# Altium schematic symbol library My Arduino Nano.SCHLIB: 18 symbols
Pins are listed as number, name and electrical type; pins without a type are passive.

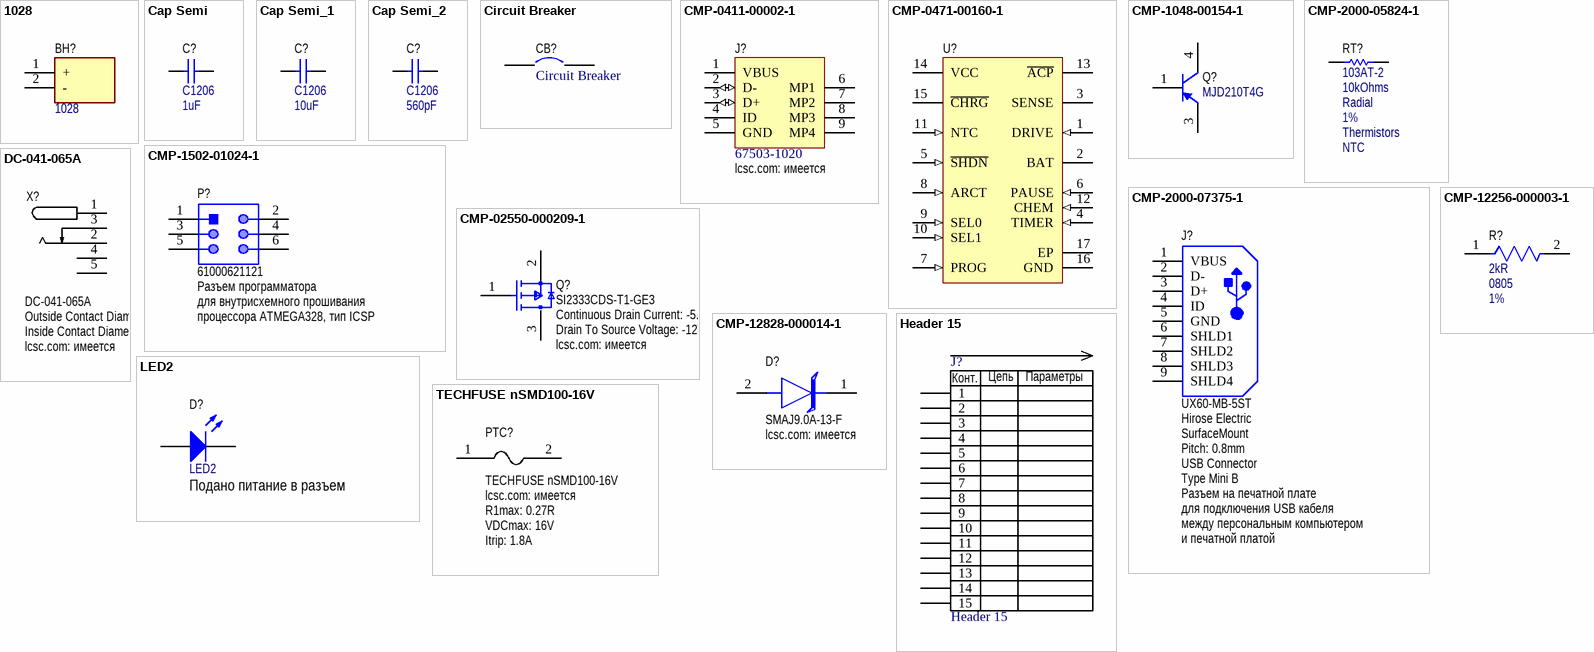
[diagram p0: symbols 1028 to TECHFUSE nSMD100-16V]

## 1028
designator BH?
Undefined or Miscellaneous; Manufacturer_Name: Keystone Electronics; Datasheet Link: http://www.keyelco.com/product-pdf.cfm?p=929; Height: 15.49mm; Manufacturer_Part_Number: 1028; Mouser Part Number: 534-1028; Mouser Price/Stock: https://www.mouser.co.uk/ProductDetail/Keystone-Electronics/1028?qs=TMDrOSIpnUdoTBwO9TubhA%3D%3D; Arrow Part Number: 1028; Arrow Price/Stock: https://www.arrow.com/en/products/1028/keystone-electronics
footprint 1028
pins: 1 +, 2 -

## Cap Semi
designator C?  value 1uF  PackageReference: C1206  (hidden comment: Cap Semi)
Capacitor (Semiconductor SIM Model); Published: 8-Jun-2000; LatestRevisionDate: 29-May-2009; LatestRevisionNote: IPC-7351 Footprint Added.; Publisher: Altium Limited; PackageDescription: Chip Capacitor
footprint C1206 (Chip Capacitor, Body 3.2x1.6mm, IPC High Density)
footprint 0402 (Chip Capacitor, Body 1.0x0.5mm, IPC High Density)
footprint C2512 (Chip Capacitor, Body 2.54x1.27mm, IPC High Density)
footprint 1608[0603] (Chip Capacitor, Body 1.6x0.8mm, IPC High Density)
footprint C1210 (Chip Capacitor, Body 3.2x2.5mm, IPC High Density)
simulation model CAP (Semiconductor Capacitor)
signal-integrity model Cap Semi
pins: 1, 2

## Cap Semi_1
designator C?, comment value 10uF  PackageReference: C1206  (hidden comment: Cap Semi)
Capacitor (Semiconductor SIM Model); Published: 8-Jun-2000; LatestRevisionDate: 29-May-2009; LatestRevisionNote: IPC-7351 Footprint Added.; Publisher: Altium Limited; PackageDescription: Chip Capacitor
footprint C1206 (Chip Capacitor, Body 3.2x1.6mm, IPC High Density)
footprint 0402 (Chip Capacitor, Body 1.0x0.5mm, IPC High Density)
footprint C2512 (Chip Capacitor, Body 2.54x1.27mm, IPC High Density)
footprint 1608[0603] (Chip Capacitor, Body 1.6x0.8mm, IPC High Density)
footprint C1210 (Chip Capacitor, Body 3.2x2.5mm, IPC High Density)
simulation model CAP (Semiconductor Capacitor)
signal-integrity model Cap Semi
pins: 1, 2

## Cap Semi_2
designator C?, comment value 560pF  PackageReference: C1206  (hidden comment: Cap Semi)
Capacitor (Semiconductor SIM Model); Published: 8-Jun-2000; LatestRevisionDate: 29-May-2009; LatestRevisionNote: IPC-7351 Footprint Added.; Publisher: Altium Limited; PackageDescription: Chip Capacitor
footprint C1206 (Chip Capacitor, Body 3.2x1.6mm, IPC High Density)
footprint 0402 (Chip Capacitor, Body 1.0x0.5mm, IPC High Density)
footprint C2512 (Chip Capacitor, Body 2.54x1.27mm, IPC High Density)
footprint 1608[0603] (Chip Capacitor, Body 1.6x0.8mm, IPC High Density)
footprint C1210 (Chip Capacitor, Body 3.2x2.5mm, IPC High Density)
simulation model CAP (Semiconductor Capacitor)
signal-integrity model Cap Semi
pins: 1, 2

## Circuit Breaker
designator CB?
Published: 24-Mar-1999; LatestRevisionDate: 17-Jul-2002; LatestRevisionNote: Re-released for DXP Platform.; PackageReference: SPST-2; Publisher: Altium Limited; PackageDescription: Switch; 2 Leads
footprint SPST-2 (Switch; 2 Leads)
pins: 1, 2

## CMP-0411-00002-1
designator J?, comment 67503-1020  lcsc.com: имеется
USB, MINI, SMD, RA KME04-USBMU03A01; Manufacturer: Molex; ComponentLink1URL: http://www.molex.com/; PartNumber: 67503-1020; Mounting Technology: Surface Mount; ComponentLink1Description: Manufacturer URL; Terminal Pitch: 0.8 mm; DatasheetVersion: Rev F, 06/2009; ComponentLink2Description: Datasheet; PackageDescription: Mini USB Connector, SMT, Righer Angle; ComponentLink2URL: http://www.molex.com/pdm_docs/sd/675031020_sd.pdf; PackageReference: 67503-1020; lcsc.com/product: https://lcsc.com/product-detail/USB-Connectors_MOLEX-675031020_C136451.html
footprint MOLX-67503-1020_V (Mini USB Connector, SMT, Righer Angle)
pins: 1 VBUS (power), 2 D- (io), 3 D+ (io), 4 ID, 5 GND (power), 6 MP1, 7 MP2, 8 MP3, 9 MP4

## CMP-0471-00160-1
designator U?, comment LTC4060EDHC#PBF  (value not drawn)
Standalone Linear NiMH / NiCd Fast Battery Charger, 4.5 to 10 V Vin, 16-pin SON (DHC-16), -40 to 85 degC, Pb-Free; Manufacturer: Linear Technology; Float Voltage: Adj; Vin Min(V): 4.5; Max Charge Current(A): 2; Battery Chemistry: NiCd, NiMH, Lead Acid; Number of Cells: 1 to 4; Vin Max(V): 10; PartNumber: LTC4060EDHC#PBF; PackageVersion: Jun-10; ComponentLink1URL: http://www.linear.com/; ComponentLink3Description: Package Specification; RoHS: TRUE; PackageReference: DHC-16; ComponentLink2Description: Datasheet; Mounting Technology: Surface Mount; PackageDescription: 16-Pin Plastic DFN, Body 5 x 3 mm, Pitch 0.5 mm; ComponentLink1Description: Manufacturer URL; Type of Charger: Linear; ComponentLink2URL: http://cds.linear.com/docs/en/datasheet/4060f.pdf; ComponentLink3URL: http://cds.linear.com/docs/en/packaging/DFN_16_05-08-1706.pdf; Code_JEDEC: MO-229
footprint LT-DHC-16_V (SON, 16-Leads, Body 5x3mm, Pitch 0.5mm, Thermal Pad 4.4X1.65mm)
pins: 1 DRIVE (in) "Base Drive Output for the External PNP Pass Transistor. Provides a controlled sink current that drives the base of the PNP. This pin has current limit protection for the LTC4060.", 2 BAT "Battery Voltage Sense Input Pin. The LTC4060 uses the voltage on this pin to monitor battery voltage and control the battery current during charging. An internal resistor divider is connected to this pin which is (See Datasheet)", 3 SENSE "Charge Current Sense Node Input. Current from VCC passes through the internal current sense resistor and reappears at the SENSE pin to supply current to the external PNP emitter. The PNP collector provides charge current (See Datasheet)", 4 TIMER (in) "Charge Timer Input. A capacitor connected between TIMER and GND along with a resistor connected from PROG to GND programs the charge cycle timing limits.", 5 ~{SHDN} (in) "Active Low Shutdown Control Logic Input. When pulled low, charging stops and the LTC4060 supply current is minimized.", 6 PAUSE (in) "Pause Enable Logic Input. The charger can be paused, turning off the charge current, disabling termination and stopping the timer when this pin is high. A low level will resume the charging process.", 7 PROG (in) "Charge Current Programming Input. Provides a virtual reference of 1.5V for an external resistor (RPROG) tied between this pin and GND that programs the battery charge current. The fast charge current will be 930 times the (See Datasheet)", 8 ARCT (in) "Autorecharge Threshold Programming Input. When the average cell voltage falls below this threshold, charging is reinitiated. The voltage on this pin is conveniently derived by using two series PROG pin resistors and (See Datasheet)", 9 SEL0 (in) "Number of Cells Selection Logic Input. For single cell, connect both pins to GND. For two cells, connect SEL1 to GND and SEL0 to VCC. For three cells, SEL1 connects to VCC and SEL0 to GND. For four cells, connect both pins (See Datasheet)", 10 SEL1 (in) "Number of Cells Selection Logic Input. For single cell, connect both pins to GND. For two cells, connect SEL1 to GND and SEL0 to VCC. For three cells, SEL1 connects to VCC and SEL0 to GND. For four cells, connect both pins (See Datasheet)", 11 NTC (in) "Battery Temperature Input. An external NTC thermistor network may be connected to NTC to provide temperature-based charge qualification. Connecting NTC to GND inhibits this function.", 12 CHEM (in) "Battery Chemistry Selection Logic Input. When connected to a high level NiCd fast charge -deltaV termination parameters are used. A low level selects NiMH parameters.", 13 ~{ACP} (hiz) "Open-Drain Power Supply Status Output. When VCC is greater than the undervoltage lockout threshold, the A\C\P\ pin will pull to ground. Otherwise the pin is high impedance. This output is capable of driving an LED.", 14 VCC (power) "Power Input. This pin can be bypassed to ground with a capacitance of 1uF.", 15 ~{CHRG} (hiz) "Open-Drain Charge Indicator Status Output. The LTC4060 indicates it is providing charge to the battery by driving this pin to GND. If charging is paused or suspended due to abnormal battery temperature, the pin remains (See Datasheet)", 16 GND (power) "Ground. This pin provides a ground for the internal voltage reference and other circuits. All voltage thresholds are referenced to this pin.", 17 EP (power) "Thermal Connection. Internally connected to GND. Solder to PCB ground for optimum thermal performance."

## CMP-1048-00154-1
designator Q?, comment MJD210T4G
Complementary Plastic Power Transistor, PNP Silicon, 3-Pin DPAK, Pb-Free, Tape and Reel; Manufacturer: On Semiconductor; fT Min (MHz): 65; IC Continuous (A): 5; ComponentLink1URL: http://www.onsemi.com/; Mounting Technology: Surface Mount; ComponentLink3Description: Package Specification; PackageReference: DPAK-3-369C-01; DatasheetVersion: Rev. 13; ComponentLink2URL: http://www.onsemi.cn/pub_link/Collateral/MJD200-D.PDF; ComponentLink3URL: http://www.onsemi.cn/pub_link/Collateral/369C.PDF; Packing: Tape and Reel; PackageDescription: 3-Pin Flange Mount, Body 6.54 x 6.095 mm, Pitch 2.29 mm; PartNumber: MJD210T4G; Polarity: PNP; RoHS: TRUE; PackageVersion: Rev. E, 02/2014; ComponentLink2Description: Datasheet; ComponentLink1Description: Manufacturer URL
footprint ONSC-DPAK-3-369C-01_V (DPAK, 3-Leads, Body 6.54x6.095mm, Pitch 2.29mm)
pins: 1 B, 3 E, 4 C

## CMP-1502-01024-1
designator P?, comment 61000621121  Parameter 1: Разъем программатора  Parameter 2: для внутрисхемного прошивания  Parameter 3: процессора ATMEGA328, тип ICSP
SMT Vertical Pin Header WR-PHD, Pitch 2.54 mm, Dual Row, 6 pins; Manufacturer: Wurth Elektronik; Withstanding Voltage: 500VAC; Contact Resistance: 20mOhm; Working Voltage: 250VAC; Gender: Male; Rated Current: 3A; Pin Number: 6; Pitch: 2.54mm; Part Number: 61000621121; Operating Temperature: -40to125degC; Mounting Technology: SMT; Packaging: Tube; Datasheet URL: https://katalog.we-online.de/em/datasheet/6100xx21121.pdf; Package Reference: 61000621121; Publisher: WurthElektronik; Row Number: Dual; Orientation: Vertical; Manufacturer URL: http://www.we-online.de
footprint 61000621121 (Pin Header, pitch 2.54 mm, SMD, Vertical, dual row, 6p)
pins: 1, 2, 3, 4, 5, 6

## CMP-2000-05824-1
designator RT?, comment 103AT-2  Resistance: 10kOhms  Termination Style: Radial  Tolerance: 1%  Product Category: Thermistors  Type: NTC
Precision NTC Thermistor, 10 kOhm, +/- 1%, 10 mW, -50 to 110 degC, 2-Pin THD, RoHS, Bulk; Brand: Semitec; Packaging: Bulk; Mounting Technology: ThroughHole; Operating Temperature Range: -50Cto+110C; Lead Spacing: 2.54mm; RoHS: True; Manufacturer URL: http://www.semitec.co.jp/english/; Datasheet Version: Rev. A, 02/2007; Length: 17mm; Manufacturer: Semitec; Datasheet URL: https://www.rapidonline.com/pdf/61-0500e.pdf; Series: AT; Package Description: 2-Pin Through Hole Device, Body Width 3.8 mm (Max), Pitch 2.54 mm; Width: 3.7mm; Package Reference: 103AT-2; Height: 2.4mm
footprint SEMI-103AT-2_V (THD, 2-Leads, Body Width 3.8mm (Max), Pitch 2.54mm)
pins: 1, 2

## CMP-2000-07375-1
designator J?, comment UX60-MB-5ST  Manufacturer: Hirose Electric  Termination: SurfaceMount  Pitch: 0.8mm  Parameter 1: USB Connector  Parameter 2: Type Mini B  Parameter 3: Разъем на печатной плате  Parameter 4: для подключения USB кабеля  Parameter 5: между персональным компьютером  Parameter 6: и печатной платой
USB Connector Mini B Type, 1 A, 5 V AC, -30 to 75 degC, 5-Pin SMD, RoHS, Tape and Reel; No of Positions: 5; Style/Orientation: RightAngleSocket/Receptacle; Datasheet Version: 04/2008; Datasheet URL: http://datasheet.octopart.com/UX60-MB-5ST-Hirose-datasheet-8329595.pdf; Type: WiretoBoard; Package Reference: UX60-MB-5ST; Manufacturer URL: https://www.hirose.com; Mounting Technology: SurfaceMount; Package Description: 5-Pin Surface Mount Device, Body 7.7 x 9 mm, Pitch 0.8 mm
footprint HIRO-UX60-MB-5ST_V (SMD, 5-Leads, Body 7.7x9mm, Pitch 0.8mm)
pins: 1 VBUS (power), 2 D-, 3 D+, 4 ID, 5 GND (power), 6 SHLD1, 7 SHLD2, 8 SHLD3, 9 SHLD4

## CMP-02550-000209-1
designator Q?, comment SI2333CDS-T1-GE3  Continuous Drain Current: -5.1A  Drain To Source Voltage: -12V  lcsc.com: имеется
MOSFET P-CH 12V 7.1A SOT-23; Manufacturer: Vishay; Gate To Source Voltage: 8V; Pulse Drain Current: -20A; Transconductance: 18.5S; Turn On Delay Time: 13ns; Turn Off Delay Time: 45ns; Max Forward Diode Voltage: -1.2V; Gate Charge At Vgs: 15nC @ -4.5V; Reverse Recovery Time: 32ns; Depletion Mode: False; Typ Forward Diode Voltage: -0.7V; Drain To Source Resistance: 0.0285Ω; Rthja Max: 75°C/W; Max Junction Temp: +150°C; Reverse Recovery Charge: 20nC; Number Of Channels: 1; Threshold Vgs Max: -1V; Standoff Height: 0.01mm; Input Capacitace At Vds: 1225pF @ -6V; Power Dissipation: 1.25W; Threshold Vgs Min: -0.4V; Temperature: -55°C to +150°C; Package: S-03946; Lead Free: Yes; Drain To Source Breakdown Voltage: -12V; Mouser Description: MOSFET 12V 5.1A 2.5W 35 mohms @ 4.5V; ComponentLink2Description: Datasheet; Automotive: No; Ipc Land Pattern Name: SOT95P237X100-3; ComponentLink2URL: http://www.vishay.com/docs/68717/si2333cd.pdf; Octopart: https://octopart.com/si2333cds-t1-ge3-vishay-43171447; Temperature Range High: +150°C; Digikey Description: MOSFET P-CH 12V 7.1A SOT-23; Category: Trans; Device Class L2: Transistors; Manufacturer Part Number: SI2333CDS-T1-GE3; RoHS: TRUE; Device Class L3: MOSFETs; Height: 1.12mm; Number Of P Channels: 1; Temperature Range Low: -55°C; Device Class L1: Discrete Semiconductors; lcsc.com link: https://lcsc.com/product-detail/MOSFETs_Vishay-Intertech-SI2333CDS-T1-GE3_C48179.html
footprint FP-S-03946-MFG
footprint FP-S-03946-IPC_C
footprint FP-S-03946-IPC_B
footprint FP-S-03946-IPC_A
pins: 1 G, 2 S, 3 D

## CMP-12256-000003-1
designator R?, comment Resistance: 2kR  Case/Package: 0805  Tolerance: 1%  (hidden comment: MC01W0805110K)
Resistor, 10K, 0.1W, 1%, 0805, Reel; Manufacturer: Multicomp; Voltage Rating: 150V; Temperature Coefficient: 100ppm/°C; Power Rating: 100mW; REACH SVHC: No SVHC; Composition: Thick Film; Max Operating Temperature: 155°C; Number of Pins: 2; Case Code (Metric): 2012; Voltage Rating (DC): 150V; Min Operating Temperature: -55°C; Width: 1.25mm; Case Code (Imperial): 0805; Packaging: Cut Tape; Supplier 1: Newark; Supplier Part Number 1: 07W5303; Manufacturer Part Number: MC01W0805110K; RoHS: No; Category: Chip SMD Resistors; Stock 1: 940000; Pricing 1: 1=0,00900, 5000=0,00900, 10000=0,00800, 25000=0,00600 (USD); Series: MC; Resistor Type: Thick Film; Resistance Tolerance: 1%; RoHS Compliant: No; ComponentLink1URL: https://datasheet.ciiva.com/7881/1729047-7881334.pdf?src-supplier=Element14; ComponentLink1Description: https://datasheet.ciiva.com/7881/1729047-7881334.pdf?src-supplier=Element14; ComponentLink2URL: https://datasheet.ciiva.com/7881/1729047-7881333.pdf?src-supplier=Element14; ComponentLink2Description: https://datasheet.ciiva.com/7881/1729047-7881333.pdf?src-supplier=Element14
footprint FP-MC01W0805-IPC_C
footprint FP-MC01W0805-IPC_B
footprint FP-MC01W0805-IPC_A
pins: 1, 2

## CMP-12828-000014-1
designator D?, comment SMAJ9.0A-13-F  lcsc.com: имеется
TVS DIODE 9V 15.4V SMA; Manufacturer: Diodes Inc; Number Of Channels: 1; Standoff Height: 0.05mm; Max Junction Temp: +150°C; Direction: Unidirectional; Breakdown Voltage: 10V; Peak Pulse Current: 26A; Peak Pulse Power: 400W; Category: Diode; Footprint Url: https://www.diodes.com/assets/Package-Files/SMA.pdf; Lead Free: Yes; Mouser Description: TVS Diodes - Transient Voltage Suppressors 400W 9.0V; Automotive: No; Temperature Range Low: -55°C; Temperature Range High: +150°C; Manufacturer Part Number: SMAJ9.0A-13-F; RoHS: TRUE; Octopart: https://octopart.com/smaj9.0a-13-f-diodes+inc.-350369; Device Class L3: unset; Device Class L2: TVS Diodes; Clamping Voltage: 15.4V; Temperature: -55°C to +150°C; ComponentLink2Description: Datasheet; Package: SMA; Reverse Standoff Voltage: 9V; Digikey Description: TVS DIODE 9V 15.4V SMA; Height: 2.4mm; ComponentLink2URL: https://www.diodes.com/assets/Datasheets/ds19005.pdf; Device Class L1: Circuit Protection; lcsc.com link: https://lcsc.com/product-detail/TVS_Diodes-Incorporated-SMAJ9-0CA-13-F_C135023.html
footprint FP-SMA-MFG
pins: 1 C, 2 A

## DC-041-065A
designator X?  Inside Contact Diameter: 0.65mm  Outside Contact Diameter: 2.6mm  lcsc.com: имеется
Surface Mount DC Power Receptacle 0.65mm -20℃~+70℃ 2.6mm 500mA 30V SMD AC/DC Power Connectors ROHS; BOM_Manufacturer: Rectangular Connectors - Contacts; Contributor: LCSC; BOM_Supplier: LCSC; BOM_Supplier Part: C192728; BOM_Manufacturer Part: DC-041-065A; BOM_JLCPCB Part Class: Extended Part; spicePre: D; spiceSymbolName: DC-041; Parameter 1: https://lcsc.com/product-detail/AC-DC-Power-Connectors_Korean-Hroparts-Elec-DC-041-065A_C192728.html
footprint DC-041-065A
pins: 1, 2, 3, 4, 5

## Header 15
designator J?
Header, 15-Pin; LatestRevisionDate: 17-Jul-2002; LatestRevisionNote: Re-released for DXP Platform.; Publisher: Altium Limited
footprint HDR1X15 (Connector; Header; 15 Position)
signal-integrity model Connector
pins: 1, 2, 3, 4, 5, 6, 7, 8, 9, 10, 11, 12, 13, 14, 15
text: Конт.; Цепь; Параметры

## LED2
designator D?  Parameter 1: Подано питание в разъем
Typical RED, GREEN, YELLOW, AMBER GaAs LED; Published: 8-Jun-2000; LatestRevisionDate: 17-Jul-2002; LatestRevisionNote: Re-released for DXP Platform.; PackageVersion: Feb-2002; PackageReference: 3.2X1.6X1.1; Publisher: Altium Limited; PackageDescription: SM LED; 2 Flat Leads
footprint 3.2X1.6X1.1 (SMT LED; 2 Flat Leads)
simulation model LED2 (Diode)
pins: 1 A, 2 K

## TECHFUSE nSMD100-16V
designator PTC?  lcsc.com: имеется  R1max: 0.27R  VDCmax: 16V  Itrip: 1.8A
Parameter 1: https://lcsc.com/product-detail/Resettable-Fuses_TECHFUSE-nSMD100-16V_C70082.html
footprint nSMD100-16V
pins: 1, 2